# Altium schematic symbol library Micron Memory Serial NOR Flash.SchLib: 207 symbols (part 6 of 12)
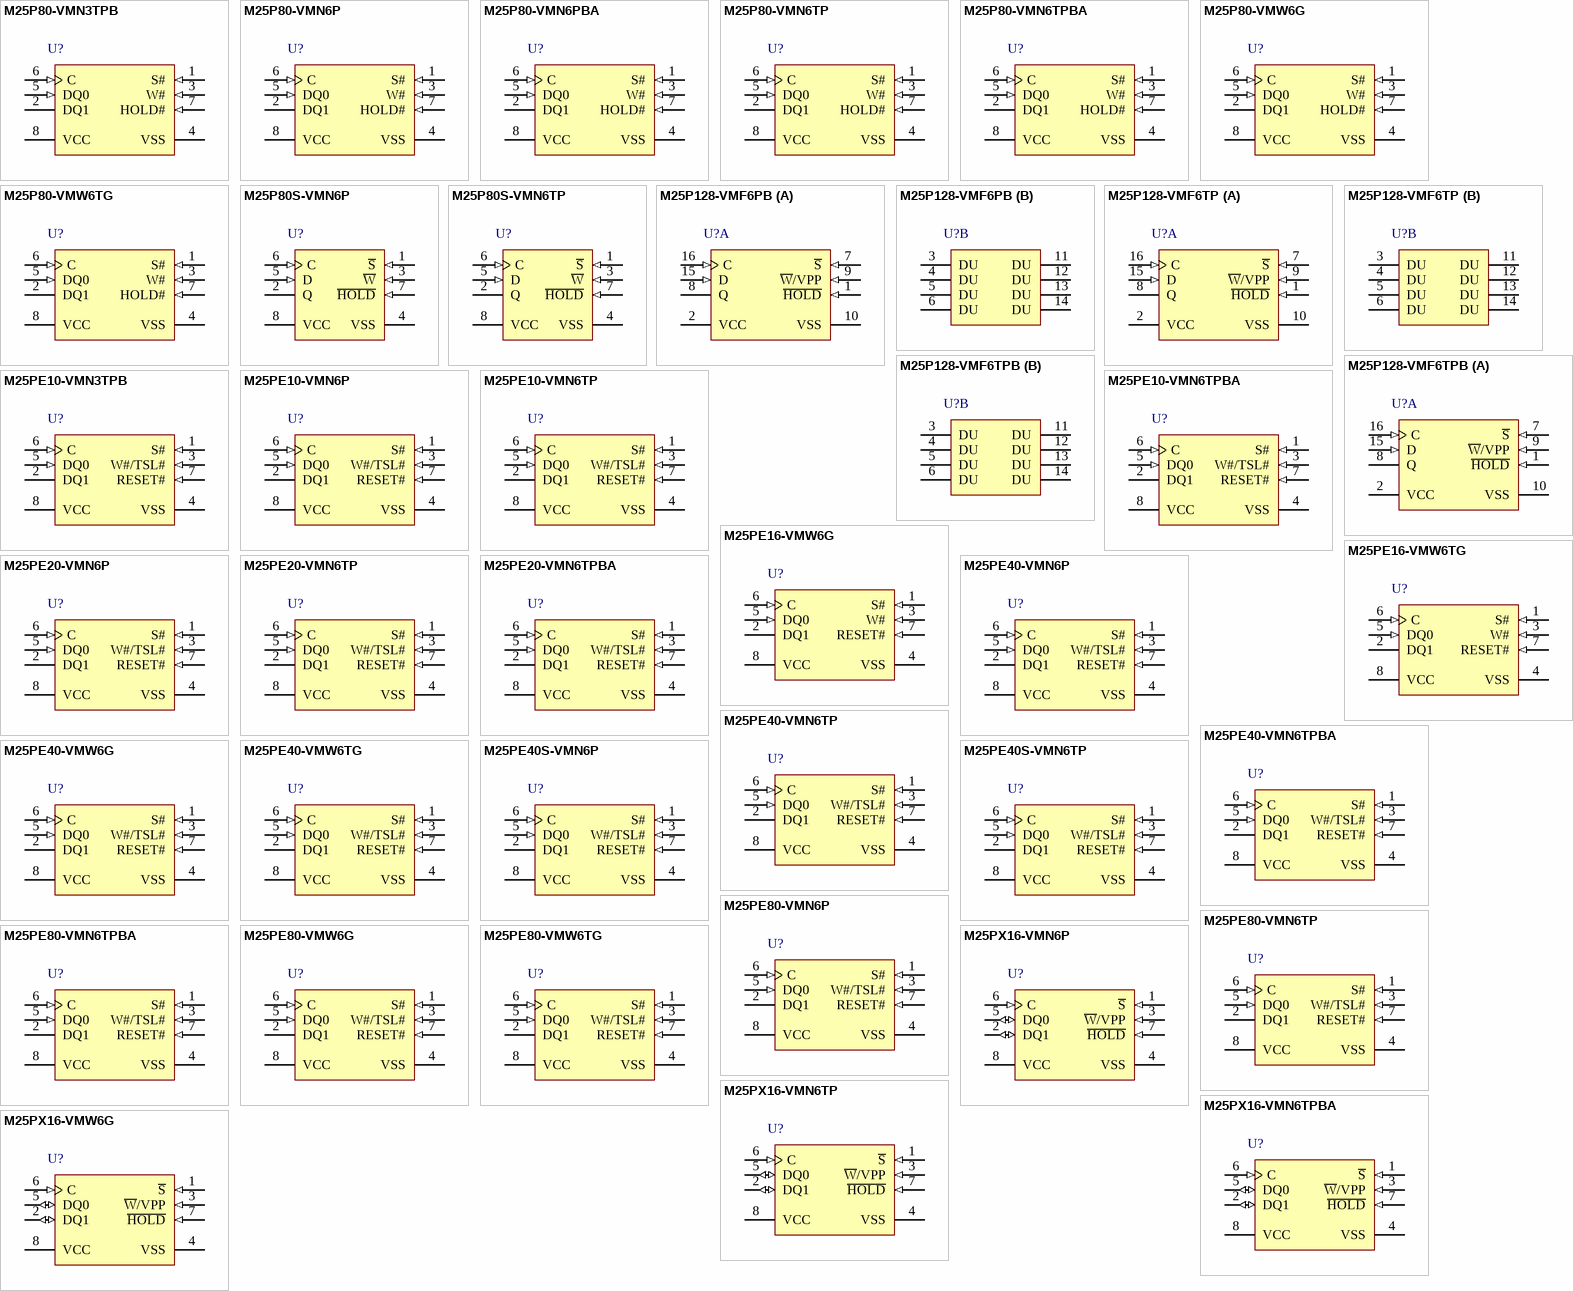
[diagram p12: symbols M25P80-VMN3TPB to M25PX16-VMW6G]

## M25PE80-VMW6G
designator U?
8 Mb (x1) Serial NOR Flash Memory with Page Erase, 75 MHz, 2.7 to 3.6 V, 8-pin SO8 Wide (MW), Tube; Part Family: M25PE; Manufacturer: Micron; PartNumber: M25PE80-VMW6G; Density: 8Mb; Speed: 75 MHz; Voltage: 2.7V-3.6V; DatasheetVersion: Rev. A; PackageVersion: Rev 8; PackageReference: MICT-MW-8; PackageDescription: 8-Pin SO Wide, 5.62 X 6.05 mm, Pitch 1.27 mm; Applications: Embedded; Package: SO8 Wide; Part Status: Production; RoHS: Yes; Type: Page Erase; Width: x1; Mounting Technology: Surface Mount; ComponentLink1Description: Manufacturer URL; ComponentLink1URL: http://www.micron.com/; ComponentLink2Description: Datasheet; ComponentLink2URL: http://www.micron.com/~/media/Documents/Products/Data%20Sheet/NOR%20Flash/Serial%20NOR/M25PE_M45PE/M25PE80.pdf; ComponentLink3Description: Package Specification; ComponentLink3URL: http://www.micron.com/~/media/Documents/Products/Data%20Sheet/NOR%20Flash/Serial%20NOR/M25P/M25P16.pdf
footprint MICT-MW-8_N (SOIC, 8-Leads, Body 6.2x6.1mm, Pitch 1.27mm, IPC Medium Density)
pins: 1 S# (in) "Chip select: When the S# input signal is HIGH, the device is deselected and DQ1 is at HIGH impedance. Unless an internal READ, PROGRAM, ERASE, or WRITE cycle is in progress, the device will be in the standby power mode (not (See Datasheet)", 2 DQ1 (hiz) "Serial data: The DQ1 output signal is used to transfer data serially out of the device. Data is shifted out on the falling edge of the serial clock (C).", 3 W#/TSL# (in) "Write protect/Top sector lock: The Write Protect function is available in the T9HX process only. The W# input signal is used to freeze the size of the area of memory that is protected against WRITE, PROGRAM, and ERASE (See Datasheet)", 4 VSS (power) "Ground: Reference for the VCC supply voltage.", 5 DQ0 (in) "Serial data: The DQ0 input signal is used to transfer data serially into the device. It receives commands, addresses, and the data to be programmed. Values are latched on the rising edge of the serial clock (C).", 6 C (in) "Clock: The C input signal provides the timing of the serial interface. Commands, addresses, or data present at serial data input (DQ0) is latched on the rising edge of the serial clock (C). Data on DQ1 changes after the (See Datasheet)", 7 RESET# (in) "Reset: The RESET# input provides a hardware reset for the memory. When RESET# is driven HIGH, the memory is in the normal operating mode. When RESET# is driven LOW, the memory will enter the Reset mode. In this mode, the (See Datasheet)", 8 VCC (power) "Supply voltage"

## M25PE80-VMW6TG
designator U?
8 Mb (x1) Serial NOR Flash Memory with Page Erase, 75 MHz, 2.7 to 3.6 V, 8-pin SO8 Wide (MW), Tape & Reel; Part Family: M25PE; Manufacturer: Micron; PartNumber: M25PE80-VMW6TG; Density: 8Mb; Speed: 75 MHz; Voltage: 2.7V-3.6V; DatasheetVersion: Rev. A; PackageVersion: Rev 8; PackageReference: MICT-MW-8; PackageDescription: 8-Pin SO Wide, 5.62 X 6.05 mm, Pitch 1.27 mm; Applications: Embedded; Package: SO8 Wide; Part Status: Production; RoHS: Yes; Type: Page Erase; Width: x1; Mounting Technology: Surface Mount; ComponentLink1Description: Manufacturer URL; ComponentLink1URL: http://www.micron.com/; ComponentLink2Description: Datasheet; ComponentLink2URL: http://www.micron.com/~/media/Documents/Products/Data%20Sheet/NOR%20Flash/Serial%20NOR/M25PE_M45PE/M25PE80.pdf; ComponentLink3Description: Package Specification; ComponentLink3URL: http://www.micron.com/~/media/Documents/Products/Data%20Sheet/NOR%20Flash/Serial%20NOR/M25P/M25P16.pdf
footprint MICT-MW-8_N (SOIC, 8-Leads, Body 6.2x6.1mm, Pitch 1.27mm, IPC Medium Density)
pins: 1 S# (in) "Chip select: When the S# input signal is HIGH, the device is deselected and DQ1 is at HIGH impedance. Unless an internal READ, PROGRAM, ERASE, or WRITE cycle is in progress, the device will be in the standby power mode (not (See Datasheet)", 2 DQ1 (hiz) "Serial data: The DQ1 output signal is used to transfer data serially out of the device. Data is shifted out on the falling edge of the serial clock (C).", 3 W#/TSL# (in) "Write protect/Top sector lock: The Write Protect function is available in the T9HX process only. The W# input signal is used to freeze the size of the area of memory that is protected against WRITE, PROGRAM, and ERASE (See Datasheet)", 4 VSS (power) "Ground: Reference for the VCC supply voltage.", 5 DQ0 (in) "Serial data: The DQ0 input signal is used to transfer data serially into the device. It receives commands, addresses, and the data to be programmed. Values are latched on the rising edge of the serial clock (C).", 6 C (in) "Clock: The C input signal provides the timing of the serial interface. Commands, addresses, or data present at serial data input (DQ0) is latched on the rising edge of the serial clock (C). Data on DQ1 changes after the (See Datasheet)", 7 RESET# (in) "Reset: The RESET# input provides a hardware reset for the memory. When RESET# is driven HIGH, the memory is in the normal operating mode. When RESET# is driven LOW, the memory will enter the Reset mode. In this mode, the (See Datasheet)", 8 VCC (power) "Supply voltage"

## M25PX16-VMN6P
designator U?
16 Mb (x1/x2) Serial NOR Flash Memory with Dual I/O, 75 MHz, 2.3 to 3.6 V, 8-pin SO8 Narrow (MN), Tube; Part Family: M25PX; Manufacturer: Micron; PartNumber: M25PX16-VMN6P; Density: 16Mb; Speed: 75 MHz; Voltage: 2.3V-3.6V; DatasheetVersion: Rev. 8; PackageVersion: Rev 11; PackageReference: MICT-MN-8; PackageDescription: 8-Pin SO Narrow, 3.9 X 4.9 mm, Pitch 1.27 mm; Applications: Embedded; Package: SO8 Narrow; Part Status: Production; RoHS: Yes; Type: Dual I/O; Width: x1/x2; Mounting Technology: Surface Mount; ComponentLink1Description: Manufacturer URL; ComponentLink1URL: http://www.micron.com/; ComponentLink2Description: Datasheet; ComponentLink2URL: http://www.micron.com/~/media/Documents/Products/Data%20Sheet/NOR%20Flash/Serial%20NOR/M25P/M25P16.pdf; ComponentLink3Description: Package Specification; ComponentLink3URL: http://www.micron.com/~/media/Documents/Products/Data%20Sheet/NOR%20Flash/Serial%20NOR/M25P/M25P05A.pdf
footprint MICT-MN-8_N (SOIC, 8-Leads, Body 5x4mm, Pitch 1.27mm, IPC Medium Density)
pins: 1 ~{S} (in) "When this input signal is High, the device is deselected and Serial Data output (DQ1) is at  high impedance. Unless an internal Program, Erase or Write Status Register cycle is in  progress, the device will be in the Standby (See Datasheet)", 2 DQ1 (io) "This output signal is used to transfer data serially out of the device. Data are shifted out on  the falling edge of Serial Clock (C). During the Dual Input Fast Program (DIFP) instruction, pin DQ1 is used as an input. It is (See Datasheet)", 3 ~{W}/VPP (in) "W\/VPP is both a control input and a power supply pin. The two functions are selected by the  voltage range applied to the pin.If the W/VPP  input is kept in a low voltage range (0 V to VCC) the pin is seen as a control  (See Datasheet)", 4 VSS (power) "VSS is the reference for the VCC supply voltage.", 5 DQ0 (io) "This input signal is used to transfer data serially into the device. It receives instructions,  addresses, and the data to be programmed. Values are latched on the rising edge of Serial  Clock (C). During the Dual Output (See Datasheet)", 6 C (in) "This input signal provides the timing of the serial interface. Instructions, addresses, or data  present at Serial Data input (DQ0) are latched on the rising edge of Serial Clock (C). Data  on Serial Data output (DQ1) (See Datasheet)", 7 ~{HOLD} (in) "The Hold (H\O\L\D\) signal is used to pause any serial communications with the device without  deselecting the device. During the Hold condition, the Serial Data output (DQ1) is high impedance, and Serial Data  input (DQ0) (See Datasheet)", 8 VCC (power) "VCC is the supply voltage."

## M25PX16-VMN6TP
designator U?
16 Mb (x1/x2) Serial NOR Flash Memory with Dual I/O, 75 MHz, 2.3 to 3.6 V, 8-pin SO8 Narrow (MN), Tape & Reel; Part Family: M25PX; Manufacturer: Micron; PartNumber: M25PX16-VMN6TP; Density: 16Mb; Speed: 75 MHz; Voltage: 2.3V-3.6V; DatasheetVersion: Rev. 8; PackageVersion: Rev 11; PackageReference: MICT-MN-8; PackageDescription: 8-Pin SO Narrow, 3.9 X 4.9 mm, Pitch 1.27 mm; Applications: Embedded; Package: SO8 Narrow; Part Status: Production; RoHS: Yes; Type: Dual I/O; Width: x1/x2; Mounting Technology: Surface Mount; ComponentLink1Description: Manufacturer URL; ComponentLink1URL: http://www.micron.com/; ComponentLink2Description: Datasheet; ComponentLink2URL: http://www.micron.com/~/media/Documents/Products/Data%20Sheet/NOR%20Flash/Serial%20NOR/M25P/M25P16.pdf; ComponentLink3Description: Package Specification; ComponentLink3URL: http://www.micron.com/~/media/Documents/Products/Data%20Sheet/NOR%20Flash/Serial%20NOR/M25P/M25P05A.pdf
footprint MICT-MN-8_N (SOIC, 8-Leads, Body 5x4mm, Pitch 1.27mm, IPC Medium Density)
pins: 1 ~{S} (in) "When this input signal is High, the device is deselected and Serial Data output (DQ1) is at  high impedance. Unless an internal Program, Erase or Write Status Register cycle is in  progress, the device will be in the Standby (See Datasheet)", 2 DQ1 (io) "This output signal is used to transfer data serially out of the device. Data are shifted out on  the falling edge of Serial Clock (C). During the Dual Input Fast Program (DIFP) instruction, pin DQ1 is used as an input. It is (See Datasheet)", 3 ~{W}/VPP (in) "W\/VPP is both a control input and a power supply pin. The two functions are selected by the  voltage range applied to the pin.If the W/VPP  input is kept in a low voltage range (0 V to VCC) the pin is seen as a control  (See Datasheet)", 4 VSS (power) "VSS is the reference for the VCC supply voltage.", 5 DQ0 (io) "This input signal is used to transfer data serially into the device. It receives instructions,  addresses, and the data to be programmed. Values are latched on the rising edge of Serial  Clock (C). During the Dual Output (See Datasheet)", 6 C (in) "This input signal provides the timing of the serial interface. Instructions, addresses, or data  present at Serial Data input (DQ0) are latched on the rising edge of Serial Clock (C). Data  on Serial Data output (DQ1) (See Datasheet)", 7 ~{HOLD} (in) "The Hold (H\O\L\D\) signal is used to pause any serial communications with the device without  deselecting the device. During the Hold condition, the Serial Data output (DQ1) is high impedance, and Serial Data  input (DQ0) (See Datasheet)", 8 VCC (power) "VCC is the supply voltage."

## M25PX16-VMN6TPBA
designator U?
16 Mb (x1/x2) Automotive Serial NOR Flash Memory with Dual I/O, 75 MHz, 2.7 to 3.6 V, 8-pin SO8 Narrow (MN), Tape & Reel; Part Family: M25PX; Manufacturer: Micron; PartNumber: M25PX16-VMN6TPBA; Density: 16Mb; Speed: 75 MHz; Voltage: 2.7V-3.6V; DatasheetVersion: Rev. 8; PackageVersion: Rev 11; PackageReference: MICT-MN-8; PackageDescription: 8-Pin SO Narrow, 3.9 X 4.9 mm, Pitch 1.27 mm; Applications: Automotive; Package: SO8 Narrow; Part Status: Production; RoHS: Yes; Type: Dual I/O; Width: x1/x2; Mounting Technology: Surface Mount; ComponentLink1Description: Manufacturer URL; ComponentLink1URL: http://www.micron.com/; ComponentLink2Description: Datasheet; ComponentLink2URL: http://www.micron.com/~/media/Documents/Products/Data%20Sheet/NOR%20Flash/Serial%20NOR/M25P/M25P16.pdf; ComponentLink3Description: Package Specification; ComponentLink3URL: http://www.micron.com/~/media/Documents/Products/Data%20Sheet/NOR%20Flash/Serial%20NOR/M25P/M25P05A.pdf
footprint MICT-MN-8_N (SOIC, 8-Leads, Body 5x4mm, Pitch 1.27mm, IPC Medium Density)
pins: 1 ~{S} (in) "When this input signal is High, the device is deselected and Serial Data output (DQ1) is at  high impedance. Unless an internal Program, Erase or Write Status Register cycle is in  progress, the device will be in the Standby (See Datasheet)", 2 DQ1 (io) "This output signal is used to transfer data serially out of the device. Data are shifted out on  the falling edge of Serial Clock (C). During the Dual Input Fast Program (DIFP) instruction, pin DQ1 is used as an input. It is (See Datasheet)", 3 ~{W}/VPP (in) "W\/VPP is both a control input and a power supply pin. The two functions are selected by the  voltage range applied to the pin.If the W/VPP  input is kept in a low voltage range (0 V to VCC) the pin is seen as a control  (See Datasheet)", 4 VSS (power) "VSS is the reference for the VCC supply voltage.", 5 DQ0 (io) "This input signal is used to transfer data serially into the device. It receives instructions,  addresses, and the data to be programmed. Values are latched on the rising edge of Serial  Clock (C). During the Dual Output (See Datasheet)", 6 C (in) "This input signal provides the timing of the serial interface. Instructions, addresses, or data  present at Serial Data input (DQ0) are latched on the rising edge of Serial Clock (C). Data  on Serial Data output (DQ1) (See Datasheet)", 7 ~{HOLD} (in) "The Hold (H\O\L\D\) signal is used to pause any serial communications with the device without  deselecting the device. During the Hold condition, the Serial Data output (DQ1) is high impedance, and Serial Data  input (DQ0) (See Datasheet)", 8 VCC (power) "VCC is the supply voltage."

## M25PX16-VMW6G
designator U?
16 Mb (x1/x2) Serial NOR Flash Memory with Dual I/O, 75 MHz, 2.3 to 3.6 V, 8-pin SO8 Wide (MW), Tube; Part Family: M25PX; Manufacturer: Micron; PartNumber: M25PX16-VMW6G; Density: 16Mb; Speed: 75 MHz; Voltage: 2.3V-3.6V; DatasheetVersion: Rev. 8; PackageVersion: Rev 8; PackageReference: MICT-MW-8; PackageDescription: 8-Pin SO Wide, 5.62 X 6.05 mm, Pitch 1.27 mm; Applications: Embedded; Package: SO8 Wide; Part Status: Production; RoHS: Yes; Type: Dual I/O; Width: x1/x2; Mounting Technology: Surface Mount; ComponentLink1Description: Manufacturer URL; ComponentLink1URL: http://www.micron.com/; ComponentLink2Description: Datasheet; ComponentLink2URL: http://www.micron.com/~/media/Documents/Products/Data%20Sheet/NOR%20Flash/Serial%20NOR/M25P/M25P16.pdf; ComponentLink3Description: Package Specification; ComponentLink3URL: http://www.micron.com/~/media/Documents/Products/Data%20Sheet/NOR%20Flash/Serial%20NOR/M25P/M25P16.pdf
footprint MICT-MW-8_N (SOIC, 8-Leads, Body 6.2x6.1mm, Pitch 1.27mm, IPC Medium Density)
pins: 1 ~{S} (in) "When this input signal is High, the device is deselected and Serial Data output (DQ1) is at  high impedance. Unless an internal Program, Erase or Write Status Register cycle is in  progress, the device will be in the Standby (See Datasheet)", 2 DQ1 (io) "This output signal is used to transfer data serially out of the device. Data are shifted out on  the falling edge of Serial Clock (C). During the Dual Input Fast Program (DIFP) instruction, pin DQ1 is used as an input. It is (See Datasheet)", 3 ~{W}/VPP (in) "W\/VPP is both a control input and a power supply pin. The two functions are selected by the  voltage range applied to the pin.", 4 VSS (power) "VSS is the reference for the VCC supply voltage.", 5 DQ0 (io) "This input signal is used to transfer data serially into the device. It receives instructions,  addresses, and the data to be programmed. Values are latched on the rising edge of Serial  Clock (C). During the Dual Output (See Datasheet)", 6 C (in) "This input signal provides the timing of the serial interface. Instructions, addresses, or data  present at Serial Data input (DQ0) are latched on the rising edge of Serial Clock (C). Data  on Serial Data output (DQ1) (See Datasheet)", 7 ~{HOLD} (in) "The Hold (H\O\L\D\) signal is used to pause any serial communications with the device without  deselecting the device. During the Hold condition, the Serial Data output (DQ1) is high impedance, and Serial Data  input (DQ0) (See Datasheet)", 8 VCC (power) "VCC is the supply voltage."

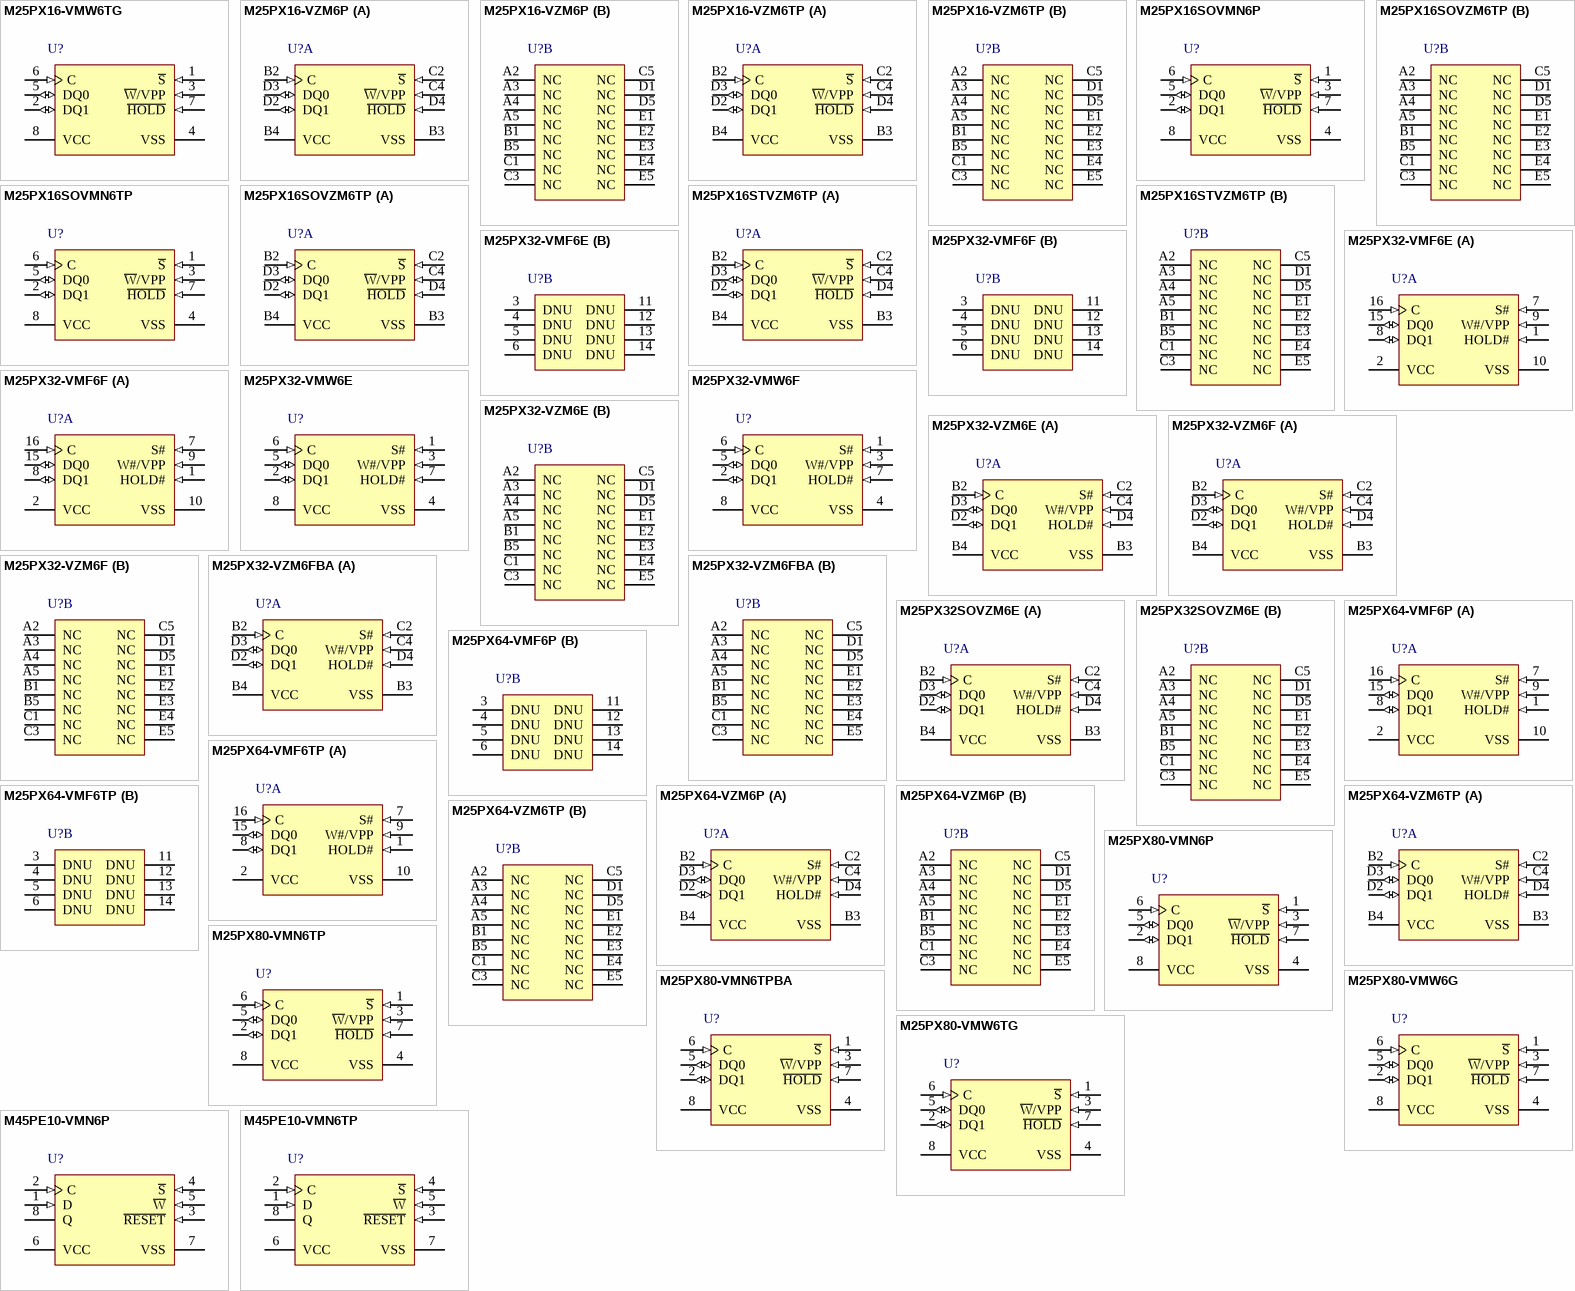
[diagram p3: symbols M25PX16-VMW6TG to M45PE10-VMN6TP]

## M25PX16-VMW6TG
designator U?
16 Mb (x1/x2) Serial NOR Flash Memory with Dual I/O, 75 MHz, 2.3 to 3.6 V, 8-pin SO8 Wide (MW), Tape & Reel; Part Family: M25PX; Manufacturer: Micron; PartNumber: M25PX16-VMW6TG; Density: 16Mb; Speed: 75 MHz; Voltage: 2.3V-3.6V; DatasheetVersion: Rev. 8; PackageVersion: Rev 8; PackageReference: MICT-MW-8; PackageDescription: 8-Pin SO Wide, 5.62 X 6.05 mm, Pitch 1.27 mm; Applications: Embedded; Package: SO8 Wide; Part Status: Production; RoHS: Yes; Type: Dual I/O; Width: x1/x2; Mounting Technology: Surface Mount; ComponentLink1Description: Manufacturer URL; ComponentLink1URL: http://www.micron.com/; ComponentLink2Description: Datasheet; ComponentLink2URL: http://www.micron.com/~/media/Documents/Products/Data%20Sheet/NOR%20Flash/Serial%20NOR/M25P/M25P16.pdf; ComponentLink3Description: Package Specification; ComponentLink3URL: http://www.micron.com/~/media/Documents/Products/Data%20Sheet/NOR%20Flash/Serial%20NOR/M25P/M25P16.pdf
footprint MICT-MW-8_N (SOIC, 8-Leads, Body 6.2x6.1mm, Pitch 1.27mm, IPC Medium Density)
pins: 1 ~{S} (in) "When this input signal is High, the device is deselected and Serial Data output (DQ1) is at  high impedance. Unless an internal Program, Erase or Write Status Register cycle is in  progress, the device will be in the Standby (See Datasheet)", 2 DQ1 (io) "This output signal is used to transfer data serially out of the device. Data are shifted out on  the falling edge of Serial Clock (C). During the Dual Input Fast Program (DIFP) instruction, pin DQ1 is used as an input. It is (See Datasheet)", 3 ~{W}/VPP (in) "W\/VPP is both a control input and a power supply pin. The two functions are selected by the  voltage range applied to the pin.", 4 VSS (power) "VSS is the reference for the VCC supply voltage.", 5 DQ0 (io) "This input signal is used to transfer data serially into the device. It receives instructions,  addresses, and the data to be programmed. Values are latched on the rising edge of Serial  Clock (C). During the Dual Output (See Datasheet)", 6 C (in) "This input signal provides the timing of the serial interface. Instructions, addresses, or data  present at Serial Data input (DQ0) are latched on the rising edge of Serial Clock (C). Data  on Serial Data output (DQ1) (See Datasheet)", 7 ~{HOLD} (in) "The Hold (H\O\L\D\) signal is used to pause any serial communications with the device without  deselecting the device. During the Hold condition, the Serial Data output (DQ1) is high impedance, and Serial Data  input (DQ0) (See Datasheet)", 8 VCC (power) "VCC is the supply voltage."

## M25PX16-VZM6P
designator U?
16 Mb (x1/x2) Serial NOR Flash Memory with Dual I/O, 75 MHz, 2.3 to 3.6 V, 24-ball TBGA (ZM), Tray; Part Family: M25PX; Manufacturer: Micron; PartNumber: M25PX16-VZM6P; Density: 16Mb; Speed: 75 MHz; Voltage: 2.3V-3.6V; DatasheetVersion: Rev. 8; PackageVersion: Rev. 8; PackageReference: MICT-ZM-24; PackageDescription: 24-Ball TPBGA, 8 X 6 mm, Pitch 1 mm; Applications: Embedded; Package: TBGA; Part Status: Production; RoHS: Yes; Type: Dual I/O; Width: x1/x2; Mounting Technology: Surface Mount; ComponentLink1Description: Manufacturer URL; ComponentLink1URL: http://www.micron.com/; ComponentLink2Description: Datasheet; ComponentLink2URL: http://www.micron.com/~/media/Documents/Products/Data%20Sheet/NOR%20Flash/Serial%20NOR/M25P/M25P16.pdf; ComponentLink3Description: Package Specification; ComponentLink3URL: http://www.micron.com/~/media/Documents/Products/Data%20Sheet/NOR%20Flash/Serial%20NOR/M25P/M25P16.pdf
footprint MICT-ZM-24 (BGA, 24-Balls, Body 8x6mm,Pitch 1mm)
part A pins: B2 C (in) "This input signal provides the timing of the serial interface. Instructions, addresses, or data present at Serial Data input (DQ0) are latched on the rising edge of Serial Clock (C). Data on Serial Data output (DQ1) changes (See Datasheet)", B3 VSS (power) "VSS is the reference for the VCC supply voltage.", B4 VCC (power) "VCC is the supply voltage.", C2 ~{S} (in) "When this input signal is High, the device is deselected and Serial Data output (DQ1) is at high impedance. Unless an internal Program, Erase or Write Status Register cycle is in progress, the device will be in the Standby (See Datasheet)", C4 ~{W}/VPP (in) "W/VPP is both a control input and a power supply pin. The two functions are selected by the voltage range applied to the pin.If the W/VPP input is kept in a low voltage range (0 V to VCC) the pin is seen as a control input. (See Datasheet)", D2 DQ1 (io) "This output signal is used to transfer data serially out of the device. Data are shifted out on the falling edge of Serial Clock (C). During the Dual Input Fast Program (DIFP) instruction, pin DQ1 is used as an input. It is (See Datasheet)", D3 DQ0 (io) "This input signal is used to transfer data serially into the device. It receives instructions, addresses, and the data to be programmed. Values are latched on the rising edge of Serial Clock (C). During the Dual Output Fast (See Datasheet)", D4 ~{HOLD} (in) "The Hold (HOLD) signal is used to pause any serial communications with the device without deselecting the device. During the Hold condition, the Serial Data output (DQ1) is high impedance, and Serial Data input (DQ0) and (See Datasheet)"
part B pins: A2 NC "No Connection", A3 NC "No Connection", A4 NC "No Connection", A5 NC "No Connection", B1 NC "No Connection", B5 NC "No Connection", C1 NC "No Connection", C3 NC "No Connection", C5 NC "No Connection", D1 NC "No Connection", D5 NC "No Connection", E1 NC "No Connection", E2 NC "No Connection", E3 NC "No Connection", E4 NC "No Connection", E5 NC "No Connection"

## M25PX16-VZM6TP
designator U?
16 Mb (x1/x2) Serial NOR Flash Memory with Dual I/O, 75 MHz, 2.3 to 3.6 V, 24-ball TBGA (ZM), Tape & Reel; Part Family: M25PX; Manufacturer: Micron; PartNumber: M25PX16-VZM6TP; Density: 16Mb; Speed: 75 MHz; Voltage: 2.3V-3.6V; DatasheetVersion: Rev. 8; PackageVersion: Rev. 8; PackageReference: MICT-ZM-24; PackageDescription: 24-Ball TPBGA, 8 X 6 mm, Pitch 1 mm; Applications: Embedded; Package: TBGA; Part Status: Production; RoHS: Yes; Type: Dual I/O; Width: x1/x2; Mounting Technology: Surface Mount; ComponentLink1Description: Manufacturer URL; ComponentLink1URL: http://www.micron.com/; ComponentLink2Description: Datasheet; ComponentLink2URL: http://www.micron.com/~/media/Documents/Products/Data%20Sheet/NOR%20Flash/Serial%20NOR/M25P/M25P16.pdf; ComponentLink3Description: Package Specification; ComponentLink3URL: http://www.micron.com/~/media/Documents/Products/Data%20Sheet/NOR%20Flash/Serial%20NOR/M25P/M25P16.pdf
footprint MICT-ZM-24 (BGA, 24-Balls, Body 8x6mm,Pitch 1mm)
part A pins: B2 C (in) "This input signal provides the timing of the serial interface. Instructions, addresses, or data present at Serial Data input (DQ0) are latched on the rising edge of Serial Clock (C). Data on Serial Data output (DQ1) changes (See Datasheet)", B3 VSS (power) "VSS is the reference for the VCC supply voltage.", B4 VCC (power) "VCC is the supply voltage.", C2 ~{S} (in) "When this input signal is High, the device is deselected and Serial Data output (DQ1) is at high impedance. Unless an internal Program, Erase or Write Status Register cycle is in progress, the device will be in the Standby (See Datasheet)", C4 ~{W}/VPP (in) "W/VPP is both a control input and a power supply pin. The two functions are selected by the voltage range applied to the pin.If the W/VPP input is kept in a low voltage range (0 V to VCC) the pin is seen as a control input. (See Datasheet)", D2 DQ1 (io) "This output signal is used to transfer data serially out of the device. Data are shifted out on the falling edge of Serial Clock (C). During the Dual Input Fast Program (DIFP) instruction, pin DQ1 is used as an input. It is (See Datasheet)", D3 DQ0 (io) "This input signal is used to transfer data serially into the device. It receives instructions, addresses, and the data to be programmed. Values are latched on the rising edge of Serial Clock (C). During the Dual Output Fast (See Datasheet)", D4 ~{HOLD} (in) "The Hold (HOLD) signal is used to pause any serial communications with the device without deselecting the device. During the Hold condition, the Serial Data output (DQ1) is high impedance, and Serial Data input (DQ0) and (See Datasheet)"
part B pins: A2 NC "No Connection", A3 NC "No Connection", A4 NC "No Connection", A5 NC "No Connection", B1 NC "No Connection", B5 NC "No Connection", C1 NC "No Connection", C3 NC "No Connection", C5 NC "No Connection", D1 NC "No Connection", D5 NC "No Connection", E1 NC "No Connection", E2 NC "No Connection", E3 NC "No Connection", E4 NC "No Connection", E5 NC "No Connection"

## M25PX16SOVMN6P
designator U?
16 Mb (x1/x2) Serial NOR Flash Memory with Dual I/O, 75 MHz, 2.3 to 3.6 V, 8-pin SO8 Narrow (MN), Tube; Part Family: M25PX; Manufacturer: Micron; PartNumber: M25PX16SOVMN6P; Density: 16Mb; Speed: 75 MHz; Voltage: 2.3V-3.6V; DatasheetVersion: Rev. 8; PackageVersion: Rev 11; PackageReference: MICT-MN-8; PackageDescription: 8-Pin SO Narrow, 3.9 X 4.9 mm, Pitch 1.27 mm; Applications: Embedded; Package: SO8 Narrow; Part Status: Contact Factory; RoHS: Yes; Type: Dual I/O; Width: x1/x2; Mounting Technology: Surface Mount; ComponentLink1Description: Manufacturer URL; ComponentLink1URL: http://www.micron.com/; ComponentLink2Description: Datasheet; ComponentLink2URL: http://www.micron.com/~/media/Documents/Products/Data%20Sheet/NOR%20Flash/Serial%20NOR/M25P/M25P16.pdf; ComponentLink3Description: Package Specification; ComponentLink3URL: http://www.micron.com/~/media/Documents/Products/Data%20Sheet/NOR%20Flash/Serial%20NOR/M25P/M25P05A.pdf
footprint MICT-MN-8_N (SOIC, 8-Leads, Body 5x4mm, Pitch 1.27mm, IPC Medium Density)
pins: 1 ~{S} (in) "When this input signal is High, the device is deselected and Serial Data output (DQ1) is at  high impedance. Unless an internal Program, Erase or Write Status Register cycle is in  progress, the device will be in the Standby (See Datasheet)", 2 DQ1 (io) "This output signal is used to transfer data serially out of the device. Data are shifted out on  the falling edge of Serial Clock (C). During the Dual Input Fast Program (DIFP) instruction, pin DQ1 is used as an input. It is (See Datasheet)", 3 ~{W}/VPP (in) "W\/VPP is both a control input and a power supply pin. The two functions are selected by the  voltage range applied to the pin.If the W\/VPP  input is kept in a low voltage range (0 V to VCC) the pin is seen as a control  (See Datasheet)", 4 VSS (power) "VSS is the reference for the VCC supply voltage.", 5 DQ0 (io) "This input signal is used to transfer data serially into the device. It receives instructions,  addresses, and the data to be programmed. Values are latched on the rising edge of Serial  Clock (C). During the Dual Output (See Datasheet)", 6 C (in) "This input signal provides the timing of the serial interface. Instructions, addresses, or data  present at Serial Data input (DQ0) are latched on the rising edge of Serial Clock (C). Data  on Serial Data output (DQ1) (See Datasheet)", 7 ~{HOLD} (in) "The Hold (H\O\L\D\) signal is used to pause any serial communications with the device without  deselecting the device. During the Hold condition, the Serial Data output (DQ1) is high impedance, and Serial Data  input (DQ0) (See Datasheet)", 8 VCC (power) "VCC is the supply voltage."

## M25PX16SOVMN6TP
designator U?
16 Mb (x1/x2) Serial NOR Flash Memory with Dual I/O, 75 MHz, 2.3 to 3.6 V, 8-pin SO8 Narrow (MN), Tape & Reel; Part Family: M25PX; Manufacturer: Micron; PartNumber: M25PX16SOVMN6TP; Density: 16Mb; Speed: 75 MHz; Voltage: 2.3V-3.6V; DatasheetVersion: Rev. 8; PackageVersion: Rev 11; PackageReference: MICT-MN-8; PackageDescription: 8-Pin SO Narrow, 3.9 X 4.9 mm, Pitch 1.27 mm; Applications: Embedded; Package: SO8 Narrow; Part Status: Contact Factory; RoHS: Yes; Type: Dual I/O; Width: x1/x2; Mounting Technology: Surface Mount; ComponentLink1Description: Manufacturer URL; ComponentLink1URL: http://www.micron.com/; ComponentLink2Description: Datasheet; ComponentLink2URL: http://www.micron.com/~/media/Documents/Products/Data%20Sheet/NOR%20Flash/Serial%20NOR/M25P/M25P16.pdf; ComponentLink3Description: Package Specification; ComponentLink3URL: http://www.micron.com/~/media/Documents/Products/Data%20Sheet/NOR%20Flash/Serial%20NOR/M25P/M25P05A.pdf
footprint MICT-MN-8_N (SOIC, 8-Leads, Body 5x4mm, Pitch 1.27mm, IPC Medium Density)
pins: 1 ~{S} (in) "When this input signal is High, the device is deselected and Serial Data output (DQ1) is at  high impedance. Unless an internal Program, Erase or Write Status Register cycle is in  progress, the device will be in the Standby (See Datasheet)", 2 DQ1 (io) "This output signal is used to transfer data serially out of the device. Data are shifted out on  the falling edge of Serial Clock (C). During the Dual Input Fast Program (DIFP) instruction, pin DQ1 is used as an input. It is (See Datasheet)", 3 ~{W}/VPP (in) "W\/VPP is both a control input and a power supply pin. The two functions are selected by the  voltage range applied to the pin.If the W\/VPP  input is kept in a low voltage range (0 V to VCC) the pin is seen as a control  (See Datasheet)", 4 VSS (power) "VSS is the reference for the VCC supply voltage.", 5 DQ0 (io) "This input signal is used to transfer data serially into the device. It receives instructions,  addresses, and the data to be programmed. Values are latched on the rising edge of Serial  Clock (C). During the Dual Output (See Datasheet)", 6 C (in) "This input signal provides the timing of the serial interface. Instructions, addresses, or data  present at Serial Data input (DQ0) are latched on the rising edge of Serial Clock (C). Data  on Serial Data output (DQ1) (See Datasheet)", 7 ~{HOLD} (in) "The Hold (H\O\L\D\) signal is used to pause any serial communications with the device without  deselecting the device. During the Hold condition, the Serial Data output (DQ1) is high impedance, and Serial Data  input (DQ0) (See Datasheet)", 8 VCC (power) "VCC is the supply voltage."

## M25PX16SOVZM6TP
designator U?
16 Mb (x1/x2) Serial NOR Flash Memory with Dual I/O, 75 MHz, 2.3 to 3.6 V, 24-ball T-PBGA (ZM), Tape & Reel; Part Family: M25PX; Manufacturer: Micron; PartNumber: M25PX16SOVZM6TP; Density: 16Mb; Speed: 75 MHz; Voltage: 2.3V-3.6V; DatasheetVersion: Rev. 8; PackageVersion: Rev. 8; PackageReference: MICT-ZM-24; PackageDescription: 24-Ball TPBGA, 8 X 6 mm, Pitch 1 mm; Applications: Embedded; Package: T-PBGA; Part Status: Production; RoHS: Yes; Type: Dual I/O; Width: x1/x2; Mounting Technology: Surface Mount; ComponentLink1Description: Manufacturer URL; ComponentLink1URL: http://www.micron.com/; ComponentLink2Description: Datasheet; ComponentLink2URL: http://www.micron.com/~/media/Documents/Products/Data%20Sheet/NOR%20Flash/Serial%20NOR/M25P/M25P16.pdf; ComponentLink3Description: Package Specification; ComponentLink3URL: http://www.micron.com/~/media/Documents/Products/Data%20Sheet/NOR%20Flash/Serial%20NOR/M25P/M25P16.pdf
footprint MICT-ZM-24 (BGA, 24-Balls, Body 8x6mm,Pitch 1mm)
part A pins: B2 C (in) "This input signal provides the timing of the serial interface. Instructions, addresses, or data  present at Serial Data input (DQ0) are latched on the rising edge of Serial Clock (C). Data  on Serial Data output (DQ1) (See Datasheet)", B3 VSS (power) "VSS is the reference for the VCC supply voltage.", B4 VCC (power) "VCC is the supply voltage.", C2 ~{S} (in) "When this input signal is High, the device is deselected and Serial Data output (DQ1) is at high impedance. Unless an internal Program, Erase or Write Status Register cycle is in  progress, the device will be in the Standby (See Datasheet)", C4 ~{W}/VPP (in) "W\/VPP is both a control input and a power supply pin. The two functions are selected by the voltage range applied to the pin.If the W\/VPP input is kept in a low voltage range (0 V to VCC) the pin is seen as a control input.(See Datasheet)", D2 DQ1 (io) "This output signal is used to transfer data serially out of the device. Data are shifted out on the falling edge of Serial Clock (C).During the Dual Input Fast Program (DIFP) instruction, pin DQ1 is used as an input. It is (See Datasheet)", D3 DQ0 (io) "This input signal is used to transfer data serially into the device. It receives instructions, addresses, and the data to be programmed. Values are latched on the rising edge of Serial Clock (C).During the Dual Output Fast (See Datasheet)", D4 ~{HOLD} (in) "The Hold (H\O\L\D\) signal is used to pause any serial communications with the device without deselecting the device.During the Hold condition, the Serial Data output (DQ1) is high impedance, and Serial Data input (DQ0) and (See Datasheet)"
part B pins: A2 NC "No connect", A3 NC "No connect", A4 NC "No connect", A5 NC "No connect", B1 NC "No connect", B5 NC "No connect", C1 NC "No connect", C3 NC "No connect", C5 NC "No connect", D1 NC "No connect", D5 NC "No connect", E1 NC "No connect", E2 NC "No connect", E3 NC "No connect", E4 NC "No connect", E5 NC "No connect"

## M25PX16STVZM6TP
designator U?
16 Mb (x1/x2) Serial NOR Flash Memory with Dual I/O, 75 MHz, 2.3 to 3.6 V, 24-ball T-PBGA (ZM), Tape & Reel; Part Family: M25PX; Manufacturer: Micron; PartNumber: M25PX16STVZM6TP; Density: 16Mb; Speed: 75 MHz; Voltage: 2.3V-3.6V; DatasheetVersion: Rev. 8; PackageVersion: Rev. 8; PackageReference: MICT-ZM-24; PackageDescription: 24-Ball TPBGA, 8 X 6 mm, Pitch 1 mm; Applications: Embedded; Package: T-PBGA; Part Status: Production; RoHS: Yes; Type: Dual I/O; Width: x1/x2; Mounting Technology: Surface Mount; ComponentLink1Description: Manufacturer URL; ComponentLink1URL: http://www.micron.com/; ComponentLink2Description: Datasheet; ComponentLink2URL: http://www.micron.com/~/media/Documents/Products/Data%20Sheet/NOR%20Flash/Serial%20NOR/M25P/M25P16.pdf; ComponentLink3Description: Package Specification; ComponentLink3URL: http://www.micron.com/~/media/Documents/Products/Data%20Sheet/NOR%20Flash/Serial%20NOR/M25P/M25P16.pdf
footprint MICT-ZM-24 (BGA, 24-Balls, Body 8x6mm,Pitch 1mm)
part A pins: B2 C (in) "This input signal provides the timing of the serial interface. Instructions, addresses, or data  present at Serial Data input (DQ0) are latched on the rising edge of Serial Clock (C). Data  on Serial Data output (DQ1) (See Datasheet)", B3 VSS (power) "VSS is the reference for the VCC supply voltage.", B4 VCC (power) "VCC is the supply voltage.", C2 ~{S} (in) "When this input signal is High, the device is deselected and Serial Data output (DQ1) is at high impedance. Unless an internal Program, Erase or Write Status Register cycle is in  progress, the device will be in the Standby (See Datasheet)", C4 ~{W}/VPP (in) "W\/VPP is both a control input and a power supply pin. The two functions are selected by the voltage range applied to the pin.If the W\/VPP input is kept in a low voltage range (0 V to VCC) the pin is seen as a control input.(See Datasheet)", D2 DQ1 (io) "This output signal is used to transfer data serially out of the device. Data are shifted out on the falling edge of Serial Clock (C).During the Dual Input Fast Program (DIFP) instruction, pin DQ1 is used as an input. It is (See Datasheet)", D3 DQ0 (io) "This input signal is used to transfer data serially into the device. It receives instructions, addresses, and the data to be programmed. Values are latched on the rising edge of Serial Clock (C).During the Dual Output Fast (See Datasheet)", D4 ~{HOLD} (in) "The Hold (H\O\L\D\) signal is used to pause any serial communications with the device without deselecting the device.During the Hold condition, the Serial Data output (DQ1) is high impedance, and Serial Data input (DQ0) and (See Datasheet)"
part B pins: A2 NC "No connect", A3 NC "No connect", A4 NC "No connect", A5 NC "No connect", B1 NC "No connect", B5 NC "No connect", C1 NC "No connect", C3 NC "No connect", C5 NC "No connect", D1 NC "No connect", D5 NC "No connect", E1 NC "No connect", E2 NC "No connect", E3 NC "No connect", E4 NC "No connect", E5 NC "No connect"

## M25PX32-VMF6E
designator U?
32 Mb (x1/x2) Serial NOR Flash Memory with Dual I/O, 75 MHz, 2.7 to 3.6 V, 16-pin SO16 Wide (MF), Tube; Part Family: M25PX; Manufacturer: Micron; PartNumber: M25PX32-VMF6E; Density: 32Mb; Speed: 75 MHz; Voltage: 2.7V-3.6V; DatasheetVersion: Rev.A; PackageVersion: Rev. A; PackageReference: MICT-MF-16; PackageDescription: 16-Pin SO Wide, 7.5 X 10.3 mm, Pitch 1.27 mm; Applications: Embedded; Package: SO16 Wide; Part Status: Production; RoHS: Yes; Type: Dual I/O; Width: x1/x2; Mounting Technology: Surface Mount; ComponentLink1Description: Manufacturer URL; ComponentLink1URL: http://www.micron.com/; ComponentLink2Description: Datasheet; ComponentLink2URL: http://www.micron.com/~/media/Documents/Products/Data%20Sheet/NOR%20Flash/Serial%20NOR/M25P/M25P128.pdf; ComponentLink3Description: Package Specification; ComponentLink3URL: http://www.micron.com/~/media/Documents/Products/Data%20Sheet/NOR%20Flash/Serial%20NOR/M25P/M25P128.pdf
footprint MICT-MF-16_N (SOIC, 16-Leads, Body 10.5x7.6mm, Pitch 1.27mm, IPC Medium Density)
part A pins: 1 HOLD# (in) "Hold: The HOLD# signal is used to pause any serial communications with the device without deselecting the device. During the hold condition, DQ1 is High-Z. DQ0 and C are "Don’t Care." To start the hold condition, the device (See Datasheet)", 2 VCC (power) "Device core power supply: Source voltage.", 7 S# (in) "Chip select: When the S# input signal is HIGH, the device is deselected and DQ1 is at HIGH impedance. Unless an internal PROGRAM, ERASE, or WRITE STATUS REGISTER cycle is in progress, the device will be in the standby power (See Datasheet)", 8 DQ1 (io) "Serial data: The DQ1 output signal is used to transfer data serially out of the device. Data is shifted out on the falling edge of the serial clock (C). During the DUAL INPUT FAST PROGRAM command, pin DQ1 is used as an input.(See Datasheet)", 9 W#/VPP (in) "Write protect/enhanced program supply voltage:The W#/VPP signal is both a control input and a power supply pin. The two functions are selected by the voltage range applied to the pin. If the W#/VPP input is kept in a low (See Datasheet)", 10 VSS (power) "Ground: Reference for the VCC supply voltage.", 15 DQ0 (io) "Serial data: The DQ0 input signal is used to transfer data serially into the device. It receives commands, addresses, and the data to be programmed. Values are latched on the rising edge of the serial clock (C). During the (See Datasheet)", 16 C (in) "Clock: The C input signal provides the timing of the serial interface. Commands, addresses, or data present at serial data input (DQ0) is latched on the rising edge of the serial clock (C). Data on DQ1 changes after the (See Datasheet)"
part B pins: 3 DNU "Do not use.", 4 DNU "Do not use.", 5 DNU "Do not use.", 6 DNU "Do not use.", 11 DNU "Do not use.", 12 DNU "Do not use.", 13 DNU "Do not use.", 14 DNU "Do not use."

## M25PX32-VMF6F
designator U?
32 Mb (x1/x2) Serial NOR Flash Memory with Dual I/O, 75 MHz, 2.7 to 3.6 V, 16-pin SO16 Wide (MF), Tape & Reel; Part Family: M25PX; Manufacturer: Micron; PartNumber: M25PX32-VMF6F; Density: 32Mb; Speed: 75 MHz; Voltage: 2.7V-3.6V; DatasheetVersion: Rev.A; PackageVersion: Rev. A; PackageReference: MICT-MF-16; PackageDescription: 16-Pin SO Wide, 7.5 X 10.3 mm, Pitch 1.27 mm; Applications: Embedded; Package: SO16 Wide; Part Status: Production; RoHS: Yes; Type: Dual I/O; Width: x1/x2; Mounting Technology: Surface Mount; ComponentLink1Description: Manufacturer URL; ComponentLink1URL: http://www.micron.com/; ComponentLink2Description: Datasheet; ComponentLink2URL: http://www.micron.com/~/media/Documents/Products/Data%20Sheet/NOR%20Flash/Serial%20NOR/M25P/M25P128.pdf; ComponentLink3Description: Package Specification; ComponentLink3URL: http://www.micron.com/~/media/Documents/Products/Data%20Sheet/NOR%20Flash/Serial%20NOR/M25P/M25P128.pdf
footprint MICT-MF-16_N (SOIC, 16-Leads, Body 10.5x7.6mm, Pitch 1.27mm, IPC Medium Density)
part A pins: 1 HOLD# (in) "Hold: The HOLD# signal is used to pause any serial communications with the device without deselecting the device. During the hold condition, DQ1 is High-Z. DQ0 and C are "Don’t Care." To start the hold condition, the device (See Datasheet)", 2 VCC (power) "Device core power supply: Source voltage.", 7 S# (in) "Chip select: When the S# input signal is HIGH, the device is deselected and DQ1 is at HIGH impedance. Unless an internal PROGRAM, ERASE, or WRITE STATUS REGISTER cycle is in progress, the device will be in the standby power (See Datasheet)", 8 DQ1 (io) "Serial data: The DQ1 output signal is used to transfer data serially out of the device. Data is shifted out on the falling edge of the serial clock (C). During the DUAL INPUT FAST PROGRAM command, pin DQ1 is used as an input.(See Datasheet)", 9 W#/VPP (in) "Write protect/enhanced program supply voltage:The W#/VPP signal is both a control input and a power supply pin. The two functions are selected by the voltage range applied to the pin. If the W#/VPP input is kept in a low (See Datasheet)", 10 VSS (power) "Ground: Reference for the VCC supply voltage.", 15 DQ0 (io) "Serial data: The DQ0 input signal is used to transfer data serially into the device. It receives commands, addresses, and the data to be programmed. Values are latched on the rising edge of the serial clock (C). During the (See Datasheet)", 16 C (in) "Clock: The C input signal provides the timing of the serial interface. Commands, addresses, or data present at serial data input (DQ0) is latched on the rising edge of the serial clock (C). Data on DQ1 changes after the (See Datasheet)"
part B pins: 3 DNU "Do not use.", 4 DNU "Do not use.", 5 DNU "Do not use.", 6 DNU "Do not use.", 11 DNU "Do not use.", 12 DNU "Do not use.", 13 DNU "Do not use.", 14 DNU "Do not use."

## M25PX32-VMW6E
designator U?
32 Mb (x1/x2) Serial NOR Flash Memory with Dual I/O, 75 MHz, 2.7 to 3.6 V, 8-pin SO8 Wide (MW), Tube; Part Family: M25PX; Manufacturer: Micron; PartNumber: M25PX32-VMW6E; Density: 32Mb; Speed: 75 MHz; Voltage: 2.7V-3.6V; DatasheetVersion: Rev.A; PackageVersion: Rev 8; PackageReference: MICT-MW-8; PackageDescription: 8-Pin SO Wide, 5.62 X 6.05 mm, Pitch 1.27 mm; Applications: Embedded; Package: SO8 Wide; Part Status: Production; RoHS: Yes; Type: Dual I/O; Width: x1/x2; Mounting Technology: Surface Mount; ComponentLink1Description: Manufacturer URL; ComponentLink1URL: http://www.micron.com/; ComponentLink2Description: Datasheet; ComponentLink2URL: http://www.micron.com/~/media/Documents/Products/Data%20Sheet/NOR%20Flash/Serial%20NOR/M25P/M25P128.pdf; ComponentLink3Description: Package Specification; ComponentLink3URL: http://www.micron.com/~/media/Documents/Products/Data%20Sheet/NOR%20Flash/Serial%20NOR/M25P/M25P16.pdf
footprint MICT-MW-8_N (SOIC, 8-Leads, Body 6.2x6.1mm, Pitch 1.27mm, IPC Medium Density)
pins: 1 S# (in) "Chip select: When the S# input signal is HIGH, the device is deselected and DQ1 is at HIGH impedance. Unless an internal PROGRAM, ERASE, or WRITE STATUS REGISTER cycle is in progress, the device will be in the standby power (See Datasheet)", 2 DQ1 (io) "Serial data: The DQ1 output signal is used to transfer data serially out of the device.Data is shifted out on the falling edge of the serial clock (C).During the DUAL INPUT FAST PROGRAM command, pin DQ1 is used as an input. (See Datasheet)", 3 W#/VPP (in) "Write protect/enhanced program supply voltage:The W#/VPP signal is both a control input and a power supply pin. The two functions are selected by the voltage range applied to the pin. If the W#/VPP input is kept in a low (See Datasheet)", 4 VSS (power) "Ground: Reference for the VCC supply voltage.", 5 DQ0 (io) "Serial data: The DQ0 input signal is used to transfer data serially into the device. It receives commands, addresses, and the data to be programmed. Values are latched on the rising edge of the serial clock (C).During the (See Datasheet)", 6 C (in) "Clock: The C input signal provides the timing of the serial interface. Commands, addresses, or data present at serial data input (DQ0) are latched on the rising edge of the serial clock (C). Data on DQ1 changes after the (See Datasheet)", 7 HOLD# (in) "Hold: The HOLD# signal is used to pause any serial communications with the device without deselecting the device. During the hold condition, DQ1 is HIGH impedance.DQ0 and C are Don’t care. To start the hold condition, the (See Datasheet)", 8 VCC (power) "Device core power supply: Source voltage."

## M25PX32-VMW6F
designator U?
32 Mb (x1/x2) Serial NOR Flash Memory with Dual I/O, 75 MHz, 2.7 to 3.6 V, 8-pin SO8 Wide (MW), Tape & Reel; Part Family: M25PX; Manufacturer: Micron; PartNumber: M25PX32-VMW6F; Density: 32Mb; Speed: 75 MHz; Voltage: 2.7V-3.6V; DatasheetVersion: Rev.A; PackageVersion: Rev 8; PackageReference: MICT-MW-8; PackageDescription: 8-Pin SO Wide, 5.62 X 6.05 mm, Pitch 1.27 mm; Applications: Embedded; Package: SO8 Wide; Part Status: Production; RoHS: Yes; Type: Dual I/O; Width: x1/x2; Mounting Technology: Surface Mount; ComponentLink1Description: Manufacturer URL; ComponentLink1URL: http://www.micron.com/; ComponentLink2Description: Datasheet; ComponentLink2URL: http://www.micron.com/~/media/Documents/Products/Data%20Sheet/NOR%20Flash/Serial%20NOR/M25P/M25P128.pdf; ComponentLink3Description: Package Specification; ComponentLink3URL: http://www.micron.com/~/media/Documents/Products/Data%20Sheet/NOR%20Flash/Serial%20NOR/M25P/M25P16.pdf
footprint MICT-MW-8_N (SOIC, 8-Leads, Body 6.2x6.1mm, Pitch 1.27mm, IPC Medium Density)
pins: 1 S# (in) "Chip select: When the S# input signal is HIGH, the device is deselected and DQ1 is at HIGH impedance. Unless an internal PROGRAM, ERASE, or WRITE STATUS REGISTER cycle is in progress, the device will be in the standby power (See Datasheet)", 2 DQ1 (io) "Serial data: The DQ1 output signal is used to transfer data serially out of the device.Data is shifted out on the falling edge of the serial clock (C).During the DUAL INPUT FAST PROGRAM command, pin DQ1 is used as an input. (See Datasheet)", 3 W#/VPP (in) "Write protect/enhanced program supply voltage:The W#/VPP signal is both a control input and a power supply pin. The two functions are selected by the voltage range applied to the pin. If the W#/VPP input is kept in a low (See Datasheet)", 4 VSS (power) "Ground: Reference for the VCC supply voltage.", 5 DQ0 (io) "Serial data: The DQ0 input signal is used to transfer data serially into the device. It receives commands, addresses, and the data to be programmed. Values are latched on the rising edge of the serial clock (C).During the (See Datasheet)", 6 C (in) "Clock: The C input signal provides the timing of the serial interface. Commands, addresses, or data present at serial data input (DQ0) are latched on the rising edge of the serial clock (C). Data on DQ1 changes after the (See Datasheet)", 7 HOLD# (in) "Hold: The HOLD# signal is used to pause any serial communications with the device without deselecting the device. During the hold condition, DQ1 is HIGH impedance.DQ0 and C are Don’t care. To start the hold condition, the (See Datasheet)", 8 VCC (power) "Device core power supply: Source voltage."